# Altium schematic symbol library Altium_Schematic_Symbols.SchLib: 30 symbols
Pins are listed as number, name and electrical type; pins without a type are passive.

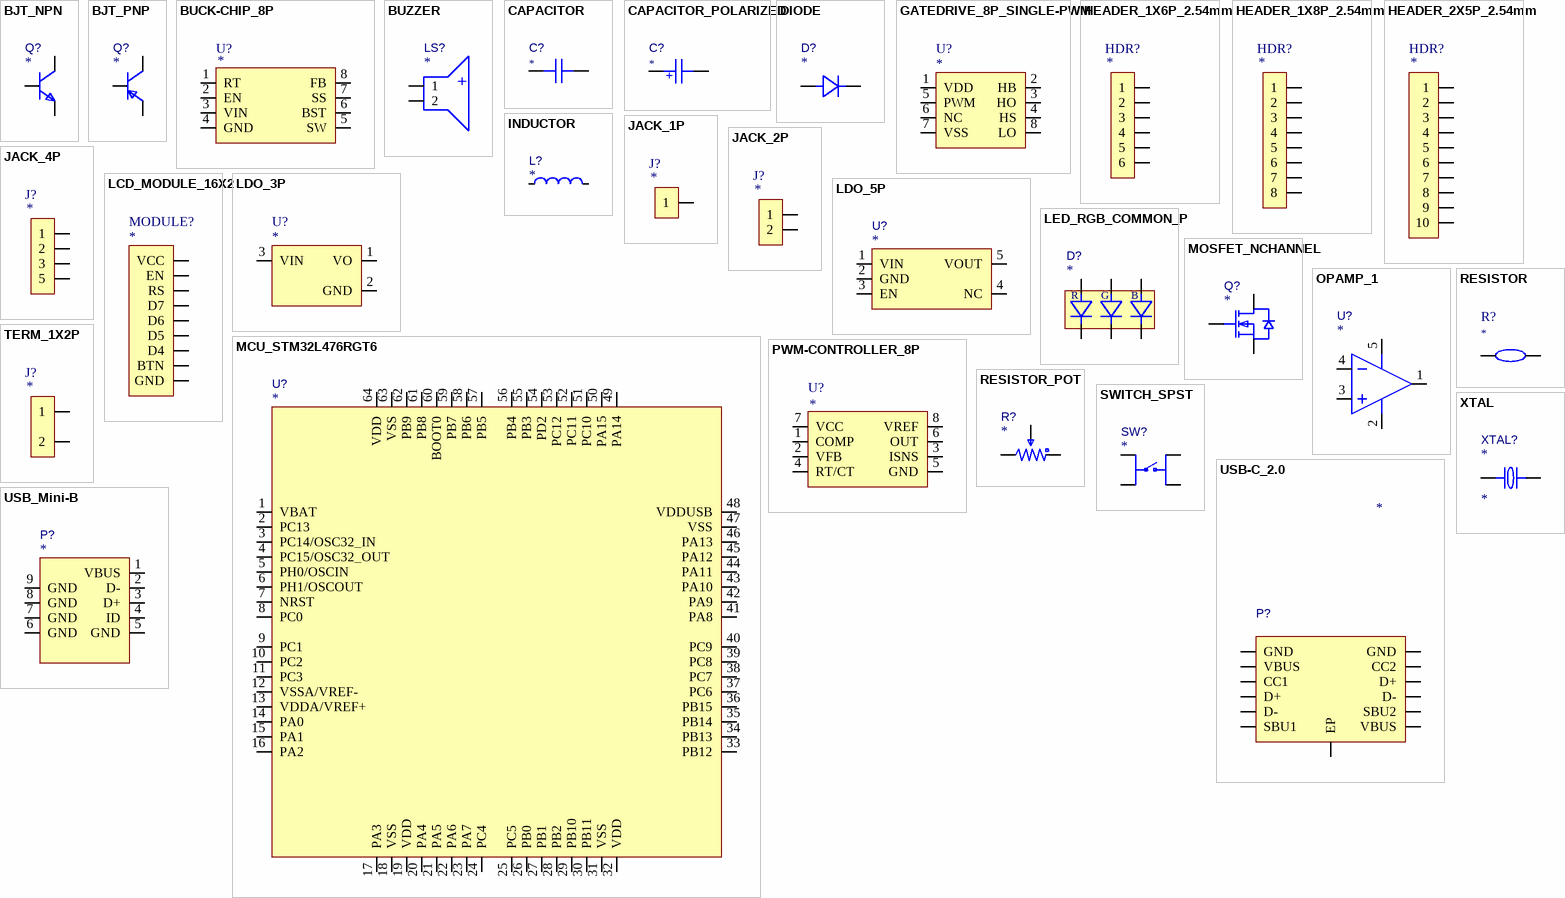
[diagram p0: symbols BJT_NPN to XTAL]

## BJT_NPN
designator Q?
ComponentLink1Description: Datasheet; ComponentLink1URL: *; ComponentLink2Description: Characteristics; ComponentLink2URL: *; Value: *
pins: 1 B, 2 E, 3 C

## BJT_PNP
designator Q?
Value: *
pins: 1 B, 2 E, 3 C

## BUCK-CHIP_8P
designator U?
Value: *
pins: 1 RT, 2 EN, 3 VIN, 4 GND, 5 SW, 6 BST, 7 SS, 8 FB

## BUZZER
designator LS?
Value: *
pins: 1, 2
text: +

## CAPACITOR
designator C?
Part Number: *; ComponentLink1Description: Datasheet; ComponentLink1URL: *; ComponentLink2Description: Characteristics; ComponentLink2URL: *; Value: *
pins: 1, 2

## CAPACITOR_POLARIZED
designator C?
Part Number: *; ComponentLink1Description: Datasheet; ComponentLink1URL: *; ComponentLink2Description: Characteristics; ComponentLink2URL: *; Value: *
pins: 1, 2
text: +

## DIODE
designator D?
Value: *
pins: 1, 2

## GATEDRIVE_8P_SINGLE-PWM
designator U?
Value: *
pins: 1 VDD, 2 HB, 3 HO, 4 HS, 5 PWM, 6 NC, 7 VSS, 8 LO

## HEADER_1X6P_2.54mm
designator HDR?
ComponentLink1Description: Datasheet; ComponentLink1URL: *; ComponentLink2Description: Characteristic; ComponentLink2URL: *; Value: *
pins: 1, 2, 3, 4, 5, 6

## HEADER_1X8P_2.54mm
designator HDR?
ComponentLink1Description: Datasheet; ComponentLink1URL: *; ComponentLink2Description: Characteristic; ComponentLink2URL: *; Value: *
pins: 1, 2, 3, 4, 5, 6, 7, 8

## HEADER_2X5P_2.54mm
designator HDR?
Value: *
pins: 1, 2, 3, 4, 5, 6, 7, 8, 9, 10

## INDUCTOR
designator L?
ComponentLink1Description: Datasheet; ComponentLink1URL: *; ComponentLink2Description: Characteristics; ComponentLink2URL: *; Value: *
pins: 1, 2

## JACK_1P
designator J?
ComponentLink1Description: Datasheet; ComponentLink1URL: *; ComponentLink2Description: Characteristic; ComponentLink2URL: *; Value: *
pins: 1

## JACK_2P
designator J?
ComponentLink1Description: Datasheet; ComponentLink1URL: *; ComponentLink2Description: Characteristic; ComponentLink2URL: *; Value: *
pins: 1, 2

## JACK_4P
designator J?
ComponentLink1Description: Datasheet; ComponentLink1URL: *; ComponentLink2Description: Characteristic; ComponentLink2URL: *; Value: *
pins: 1, 2, 3, 4 5

## LCD_MODULE_16X2
designator MODULE?
Value: *
pins: 5 VCC, 6 GND, 7 BTN, 17 D4, 18 D5, 19 D6, 20 D7, 21 RS, 22 EN

## LDO_3P
designator U?
Value: *
pins: 1 VO, 2 GND, 3 VIN

## LDO_5P
designator U?
Value: *
pins: 1 VIN, 2 GND, 3 EN, 4 NC, 5 VOUT

## LED_RGB_COMMON_P
designator D?
Value: *
pins: 1 B, 2 P, 2 P, 2 P, 3 G, 4 R

## MCU_STM32L476RGT6
designator U?
Value: *
footprint LQFP-64_L10.0-W10.0-P0.50-LS12.0-BL
pins: 1 VBAT, 2 PC13, 3 PC14/OSC32_IN, 4 PC15/OSC32_OUT, 5 PH0/OSCIN, 6 PH1/OSCOUT, 7 NRST, 8 PC0, 9 PC1, 10 PC2, 11 PC3, 12 VSSA/VREF-, 13 VDDA/VREF+, 14 PA0, 15 PA1, 16 PA2, 17 PA3, 18 VSS, 19 VDD, 20 PA4, 21 PA5, 22 PA6, 23 PA7, 24 PC4, 25 PC5, 26 PB0, 27 PB1, 28 PB2, 29 PB10, 30 PB11, 31 VSS, 32 VDD, 33 PB12, 34 PB13, 35 PB14, 36 PB15, 37 PC6, 38 PC7, 39 PC8, 40 PC9, 41 PA8, 42 PA9, 43 PA10, 44 PA11, 45 PA12, 46 PA13, 47 VSS, 48 VDDUSB, 49 PA14, 50 PA15, 51 PC10, 52 PC11, 53 PC12, 54 PD2, 55 PB3, 56 PB4, 57 PB5, 58 PB6, 59 PB7, 60 BOOT0, 61 PB8, 62 PB9, 63 VSS, 64 VDD

## MOSFET_NCHANNEL
designator Q?
ComponentLink1Description: Datasheet; ComponentLink1URL: *; ComponentLink2Description: Characteristics; ComponentLink2URL: *; Value: *
pins: 1 G, 3 S, 4 D

## OPAMP_1
designator U?
ComponentLink1Description: Datasheet; ComponentLink1URL: *; ComponentLink2Description: Characteristics; ComponentLink2URL: *; Value: *
pins: 1 OUT, 2 -V, 3 +IN, 4 -IN, 5 +V

## PWM-CONTROLLER_8P
designator U?
Value: *
pins: 1 COMP, 2 VFB, 3 ISNS, 4 RT/CT, 5 GND, 6 OUT, 7 VCC, 8 VREF

## RESISTOR
designator R?
Part Number: *; ComponentLink1Description: Datasheet; ComponentLink1URL: *; ComponentLink2Description: Characteristics; ComponentLink2URL: *; Value: *
pins: 1, 2

## RESISTOR_POT
designator R?
ComponentLink1Description: Datasheet; ComponentLink1URL: *; ComponentLink2Description: Characteristics; ComponentLink2URL: *; Value: *
pins: 1, 2, 3

## SWITCH_SPST
designator SW?
Value: *
pins: 1, 2, 3, 4

## TERM_1X2P
designator J?
ComponentLink1Description: Datasheet; ComponentLink1URL: *; ComponentLink2Description: Characteristic; ComponentLink2URL: *; Value: *
pins: 1, 2

## USB-C_2.0
designator P?
Value: *
pins: A1B12 GND, A4B9 VBUS, A5 CC1, A6 D+, A7 D-, A8 SBU1, B1A12 GND, B4A9 VBUS, B5 CC2, B6 D+, B7 D-, B8 SBU2, EP

## USB_Mini-B
designator P?
Value: *
pins: 1 VBUS, 2 D-, 3 D+, 4 ID, 5 GND, 6 GND, 7 GND, 8 GND, 9 GND

## XTAL
designator XTAL?
Frequency: *; Value: *
pins: 1, 2